# Altium schematic symbol library LB - V01-R01.SchLib: 21 symbols
Pins are listed as number, name and electrical type; pins without a type are passive.

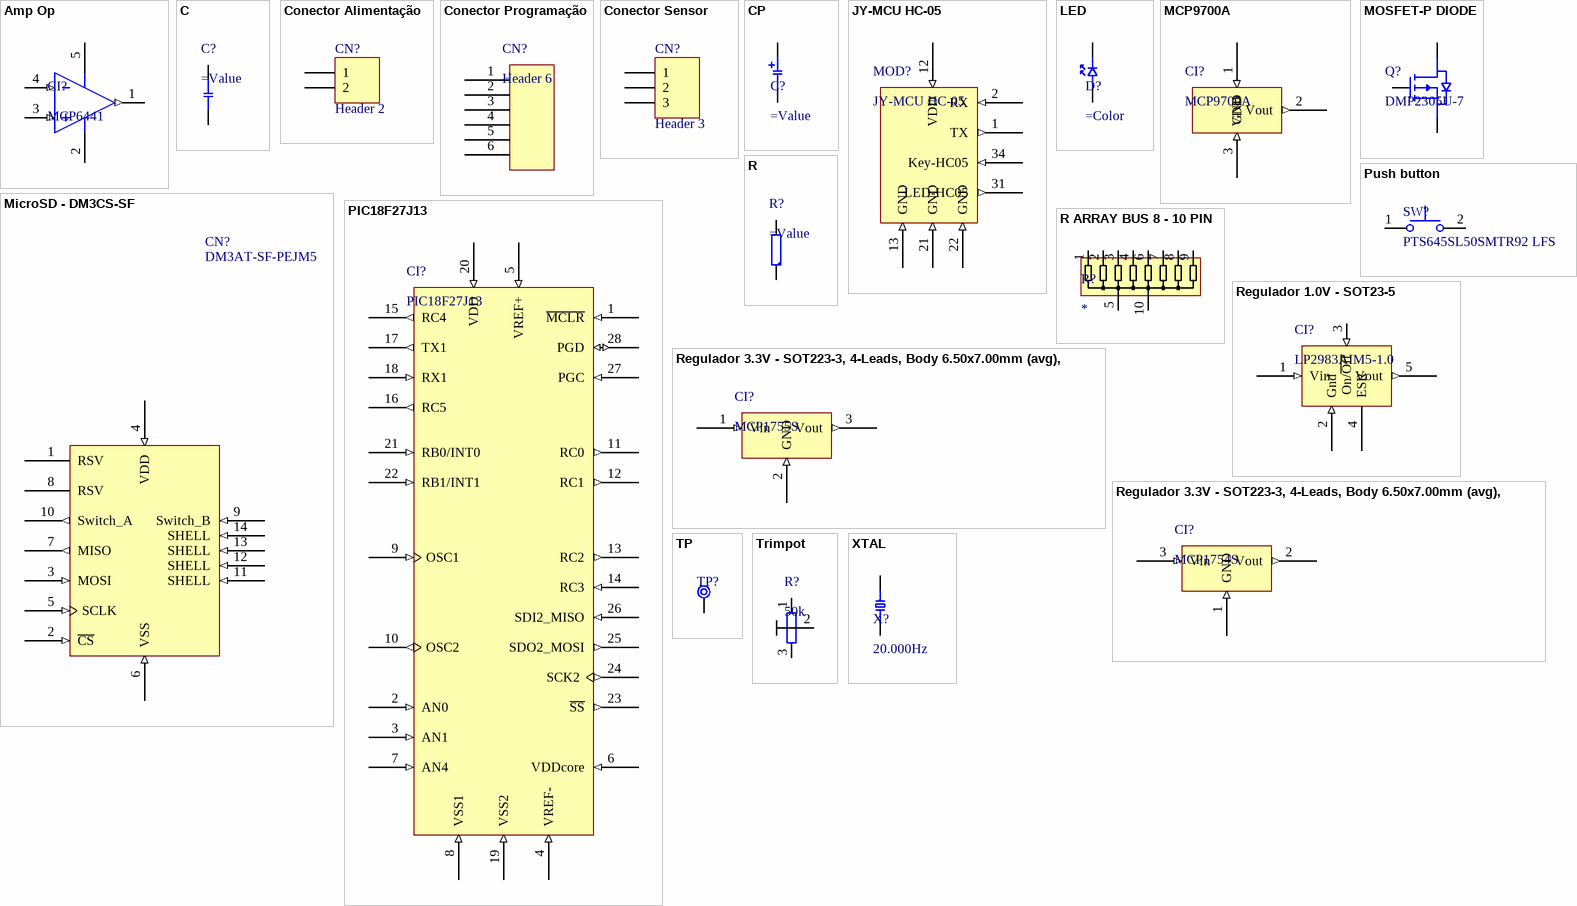
[diagram p0: symbols Amp Op to XTAL]

## Amp Op
designator CI?, comment MCP6441
Amp Op 3.3V Rail-to-Rail; PN_Fab: MCP6441T-E/OT; PN_For: MCP6441T-E/OTCT-ND; Ref_Fab: Microchip Technology; Ref_For: Digikey
footprint SOT23-5 Amp Op (Amp Op)
pins: 1 Vout (out), 2 VSS, 3 Vin+ (in), 4 Vin- (in), 5 VDD

## C
designator C?
=Description; PN_Fab: *; PN_For: *; Ref_Fab: *; Ref_For: *
pins: 1 A, 2 B

## Conector Alimentação
designator CN?, comment Header 2
Header, 2-Pin; Ref_Fab: TE Connectivity; Ref_For: Digikey; PN_Fab: 640456-2; PN_For: A1921-ND
footprint HDR1X2 (Connector; Header; 2 Position)
pins: 1, 2

## Conector Programação
designator CN?, comment Header 6
Header, 6-Pin; PN_Fab: 534237-4; PN_For: A26418-ND; Ref_Fab: TE Connectivity; Ref_For: Digikey
footprint HDR1X6 (Connector; Header; 6 Position)
pins: 1, 2, 3, 4, 5, 6

## Conector Sensor
designator CN?, comment Header 3
Header, 3-Pin; PN_Fab: 640456-3; PN_For: A19470-ND; Ref_For: TE Connectivity; Ref_For: Digikey
footprint HDR1X3 (Connector; Header; 3 Position)
pins: 1, 2, 3

## CP
designator C?
=Descripton; PN_Fab: *; PN_For: *; Ref_Fab: *; Ref_For: *
pins: 1 P, 2 N

## JY-MCU HC-05
designator MOD?
Modulo Bluetooth HC-05; Ref_For: Deal Extreme; PN_Fab: JY-MCU HC-05; PN_For: JY-MCU HC-05; Ref_Fab: *
footprint JY-MCU HC-0x (Modulo Bluetooth HC-0x)
pins: 1 TX (out), 2 RX (in), 12 VDD (in), 13 GND (in), 21 GND (in), 22 GND (in), 31 LED-HC05 (out), 34 Key-HC05 (in)

## LED
designator D?
LED; Ref_Fab: Lite-On Inc; Ref_For: Digikey; PN_Fab: *; PN_For: *
footprint LTST-C930 (LED LITE-ON LTST-C930)
pins: A, K

## MCP9700A
designator CI?
Sensor de temperatura; PN_For: MCP9700AT-E/TTCT-ND; PN_Fab: MCP9700AT-E/TT; Ref_Fab: Microchip; Ref_For: Digikey
footprint MCP9700A (Sensor de temperatura)
pins: 1 VDD (in), 2 Vout (out), 3 GND (in)

## MicroSD - DM3CS-SF
designator CN?, comment DM3AT-SF-PEJM5
Slot Micro SD - Push-Pull; PN_For: HR1964CT-ND; Ref_Fab: Hirose Electric Co Ltd; Ref_For: Digikey; PN_Fab: DM3AT-SF-PEJM5
footprint DM3AT
pins: 1 RSV, 2 ~{CS} (in), 3 MOSI (in), 4 VDD (in), 5 SCLK (in), 6 VSS (in), 7 MISO (out), 8 RSV, 9 Switch_B (in), 10 Switch_A (out), 11 SHELL (in), 12 SHELL (in), 13 SHELL (in), 14 SHELL (in)

## MOSFET-P DIODE
designator Q?, comment DMP2305U-7
MOSFET-P; PN_For: DMP2305UDICT-ND; Ref_Fab: Diodes Incorporated; Ref_For: Digikey; PN_Fab: DMP2305U-7
footprint DMP2305U-7 (SOT23, 3-Leads, Body 2.90x2.45mm, Pitch 0.95mm, IPC Medium Density)
pins: D, G, S

## PIC18F27J13
designator CI?
PIC18 8Bits; PN_Fab: PIC18F27J13-I/SO; PN_For: PIC18F27J13-I/SO-ND; Ref_Fab: Microchip Technology; Ref_For: Digikey
footprint PIC24F16KL402 (SOIC, 28-Leads, Body 17.90x7.50mm, Pitch 1.27mm, IPC Medium Density)
pins: 1 ~{MCLR} (in), 2 AN0 (in), 3 AN1 (in), 4 VREF- (in), 5 VREF+ (in), 6 VDDcore (in), 7 AN4 (in), 8 VSS1 (in), 9 OSC1 (in), 10 OSC2 (out), 11 RC0 (out), 12 RC1 (out), 13 RC2 (out), 14 RC3 (in), 15 RC4 (out), 16 RC5 (out), 17 TX1 (out), 18 RX1 (in), 19 VSS2 (in), 20 VDD (in), 21 RB0/INT0 (in), 22 RB1/INT1 (in), 23 ~{SS} (out), 24 SCK2 (out), 25 SDO2_MOSI (out), 26 SDI2_MISO (in), 27 PGC (in), 28 PGD (io)

## Push button
designator SW?, comment PTS645SL50SMTR92 LFS
Push Button; PN_For: CKN9088CT-ND; Ref_Fab: C&K Components; Ref_For: Digikey; PN_Fab: PTS645SL50SMTR92 LFS
footprint Push Button
pins: 1, 2

## R
designator R?
=Descripton; Ref_For: Digikey; PN_Fab: *; PN_For: *; Ref_Fab: *
pins: 1 A, 2 B

## R ARRAY BUS 8 - 10 PIN
designator R?
Brigde 4k7x8; PN_Fab: MNR15ERRPJ472; PN_For: RHM1615CT-ND; Ref_Fab: Rohm Semiconductor; Ref_For: Digikey
footprint MMR15 Mod
pins: 1, 2, 3, 4, 5, 6, 7, 8, 9, 10

## Regulador 1.0V - SOT23-5
designator CI?, comment LP2983AIM5-1.0
Regulador 1.0V; LP2983AIM5-1.0/NOPB: PN_Fab; LP2983AIM5-1.0/NOPBCT-ND: PN_For; Texas Instruments: Ref_Fab; Digikey: Ref_For
footprint SOT23-5 Amp Op (Amp Op)
pins: 1 Vin (in), 2 Gnd (in), 3 On/~{Off} (in), 4 ESR, 5 Vout (out)

## Regulador 3.3V - SOT223-3, 4-Leads, Body 6.50x7.00mm (avg), Pitch 2.30mm, IPC Medium
designator CI?, comment MCP1755S
Regulador 3.3V; PN_Fab: MCP1755ST-3302E/DB; PN_For: MCP1755ST-3302E/DBCT-ND; Ref_Fab: Microchip Technology; Ref_For: Digikey
footprint MCP1755ST-3302E/DB (Regulador 3.3V - SOT223-3, 4-Leads, Body 6.50x7.00mm (avg), Pitch 2.30mm, IPC Medium Density)
pins: 1 Vin (in), 2 GND (in), 3 Vout (out)

## Regulador 3.3V - SOT223-3, 4-Leads, Body 6.50x7.00mm (avg), Pitch 2.30mm, IPC Medium_1
designator CI?, comment MCP1754S
Regulador 3.3V MCP1754S; PN_Fab: MCP1754ST-3302E/CB; PN_For: MCP1754ST-3302E/CBCT-ND; Ref_Fab: Microchip Technology; Ref_For: Digikey
footprint SOT23-A MCP1754 (MCP1754)
pins: 1 GND (in), 2 Vout (out), 3 Vin (in)

## TP
designator TP?  (value not drawn)  (no BOM)
Test Point
footprint TPSMD (Test Point SMD)
pins: 1

## Trimpot
designator R?, comment 50k
Trimpot 50k; PN_Fab: 3364X-1-503E; PN_For: 3364X-503ECT-ND; Ref_Fab: Bourns Inc.; Ref_For: Digikey
footprint 3364X-1-503E (Trimpot 50k)
pins: 1 B, 2 C, 3 A

## XTAL
designator X?, comment 20.000Hz
Crystal 20.000Hz; PN_Fab: ABM3-20.000MHZ-B2-T; PN_For: 535-9105-1-ND; Ref_Fab: Abracon Corporation; Ref_For: Digikey
footprint 20.000Hz - Errado
pins: 1 A, 2 B